# Altium schematic symbol library Connectors.SchLib: 11 symbols
Pins are listed as number, name and electrical type; pins without a type are passive.

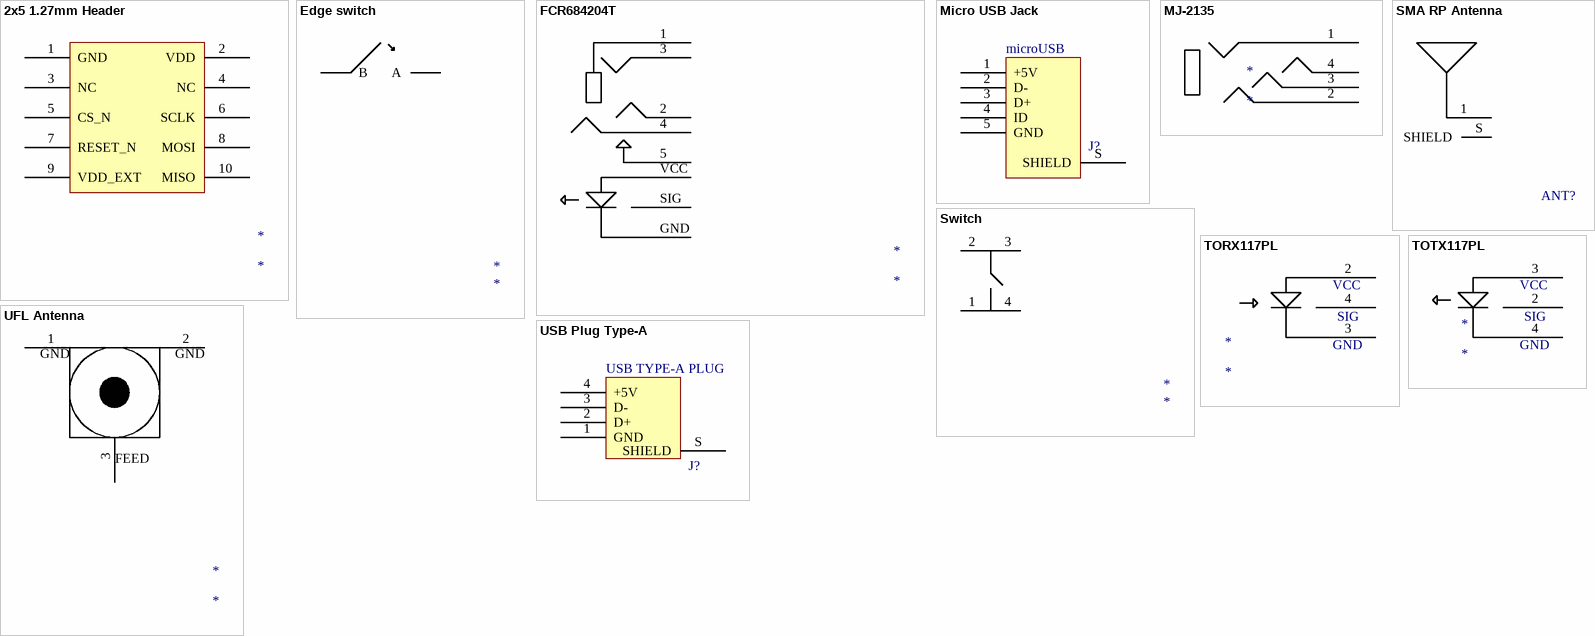
[diagram p0: symbols 2x5 1.27mm Header to USB Plug Type-A]

## 2x5 1.27mm Header
designator *
footprint DEBUG
pins: 1 GND, 2 VDD, 3 NC, 4 NC, 5 CS_N, 6 SCLK, 7 RESET_N, 8 MOSI, 9 VDD_EXT, 10 MISO

## Edge switch
designator *
footprint edge swich
pins: A, B

## FCR684204T
designator *
Combo audio jack
footprint newcombojack
pins: 1, 2, 3, 4, 5, GND, SIG, VCC

## Micro USB Jack
designator J?  (value not drawn)
Molex micro USB AB  47589-0001
footprint microUSB (Molex mirco USB AB REC. 47589-0001)
pins: 1 +5V, 2 D-, 3 D+, 4 ID, 5 GND, S SHIELD
text: microUSB

## MJ-2135
designator *
3.5mm Audio jack
footprint audio jack
pins: 1, 2, 3, 4

## SMA RP Antenna
designator ANT?  (value not drawn)
footprint SMA ANTENNA (Right Angle Edge Connector 1.6mm PCB)
pins: 1 FEED, S SHIELD

## Switch
designator *
Panasonic EVQQ2201W
footprint SWITCH
pins: 1, 2, 3, 4

## TORX117PL
designator *
footprint TOXX177PL (SPDIF R/T)
pins: 2 VCC, 3 GND, 4 SIG

## TOTX117PL
designator *
footprint TOXX177PL (SPDIF R/T)
pins: 2 SIG, 3 VCC, 4 GND

## UFL Antenna
designator *
footprint UFL_ANT
pins: 1 GND, 2 GND, 3 FEED

## USB Plug Type-A
designator J?
USB - A USB 2.0 Plug Connector 4 Position Through Hole, Right Angle
footprint USB TYPE-A PLUG
pins: 1 GND, 2 D+, 3 D-, 4 +5V, S SHIELD
text: USB TYPE-A PLUG